# EAGLE library part ADUC7021* (library ADS1115DGS)
Precision Analog Microcontroller 12-bit Analog I/O, ARM7TDMI® MCU ADuC7021 Source: Source: http://www.analog.com/UploadedFiles/Data_Sheets/288945048AD7C7019_20_1_2_4_5_6_7_0.pdf
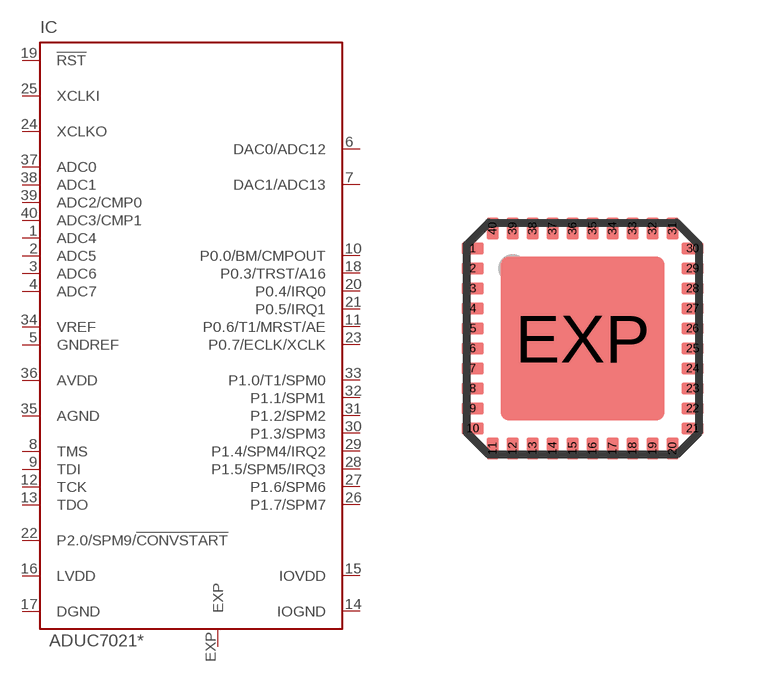
[diagram p36: symbol with the pads of LFCSP40; footprint LFCSP40]

Designator prefix IC

## ADUC7021BCPZ32 (MPN: ADUC7021BCPZ32; OC_FARNELL: 1274142; OC_NEWARK: 31M3910), ADUC7021BCPZ32-RL (OC_FARNELL: unknown; OC_NEWARK: unknown), ADUC7021BCPZ32-RL7 (OC_FARNELL: unknown; OC_NEWARK: unknown), ADUC7021BCPZ62 (MPN: ADUC7021BCPZ62; OC_FARNELL: 1162635; OC_NEWARK: 31M3911), ADUC7021BCPZ62-RL (OC_FARNELL: unknown; OC_NEWARK: unknown), ADUC7021BCPZ62-RL7 (OC_FARNELL: unknown; OC_NEWARK: unknown), ADUC7021BCPZ62I (MPN: ADUC7021BCPZ62I; OC_FARNELL: 1162636; OC_NEWARK: 19M0738), ADUC7021BCPZ62I-RL (OC_FARNELL: unknown; OC_NEWARK: unknown), ADUC7021BCPZ62IRL7 (OC_FARNELL: unknown; OC_NEWARK: unknown)  [LFCSP40]
1  ADC4  in
2  ADC5  in
3  ADC6  in
4  ADC7  in
5  GNDREF  in
6  DAC0/ADC12  in
7  DAC1/ADC13  in
8  TMS  in
9  TDI  in
10  P0.0/BM/CMPOUT
11  P0.6/T1/MRST/AE
12  TCK  in
13  TDO  out
14  IOGND  pwr
15  IOVDD  pwr
16  LVDD  out
17  DGND  pwr
18  P0.3/TRST/A16
19  !RST  in
20  P0.4/IRQ0
21  P0.5/IRQ1
22  P2.0/SPM9/!CONVSTART
23  P0.7/ECLK/XCLK
24  XCLKO  out
25  XCLKI  in
26  P1.7/SPM7
27  P1.6/SPM6
28  P1.5/SPM5/IRQ3
29  P1.4/SPM4/IRQ2
30  P1.3/SPM3
31  P1.2/SPM2
32  P1.1/SPM1
33  P1.0/T1/SPM0
34  VREF  pas
35  AGND  pwr
36  AVDD  pwr
37  ADC0  in
38  ADC1  in
39  ADC2/CMP0  in
40  ADC3/CMP1  in
EXP  EXP  pas

## Footprint LFCSP40 (pad centres in mm)
40-Lead Frame Chip Scale Package [LFCSP_VQ] 6 mm x 6 mm Body, Very Thin Quad (CP-40) COMPLIANT TO JEDEC STANDARDS MO-220-VJJD-2 Source: http://www.analog.com/UploadedFiles/Data_Sheets/288945048AD7C7019_20_1_2_4_5_6_7_0.pdf
smd 0.55 x 0.3: 1 -2.75,2.25; 2 -2.75,1.75; 3 -2.75,1.25; 4 -2.75,0.75; 5 -2.75,0.25; 6 -2.75,-0.25; 7 -2.75,-0.75; 8 -2.75,-1.25; 9 -2.75,-1.75; 10 -2.75,-2.25; 21 2.75,-2.25; 22 2.75,-1.75; 23 2.75,-1.25; 24 2.75,-0.75; 25 2.75,-0.25; 26 2.75,0.25; 27 2.75,0.75; 28 2.75,1.25; 29 2.75,1.75; 30 2.75,2.25
smd 0.3 x 0.55: 11 -2.25,-2.75; 12 -1.75,-2.75; 13 -1.25,-2.75; 14 -0.75,-2.75; 15 -0.25,-2.75; 16 0.25,-2.75; 17 0.75,-2.75; 18 1.25,-2.75; 19 1.75,-2.75; 20 2.25,-2.75; 31 2.25,2.75; 32 1.75,2.75; 33 1.25,2.75; 34 0.75,2.75; 35 0.25,2.75; 36 -0.25,2.75; 37 -0.75,2.75; 38 -1.25,2.75; 39 -1.75,2.75; 40 -2.25,2.75
smd 4.1 x 4.1: EXP 0,0